# Altium footprint library Package_CSP.PcbLib: 127 footprints (part 4 of 8)
Each footprint in its own frame and in the unit in brackets; x right, y up, seen from the top. Pads: shape width x height; smd on the part's side, far side on the other; paste and mask are expansions set on the pad; w line width, h text height; cw(c..) or ccw(c..) is an arc to the next point about the centre after c.
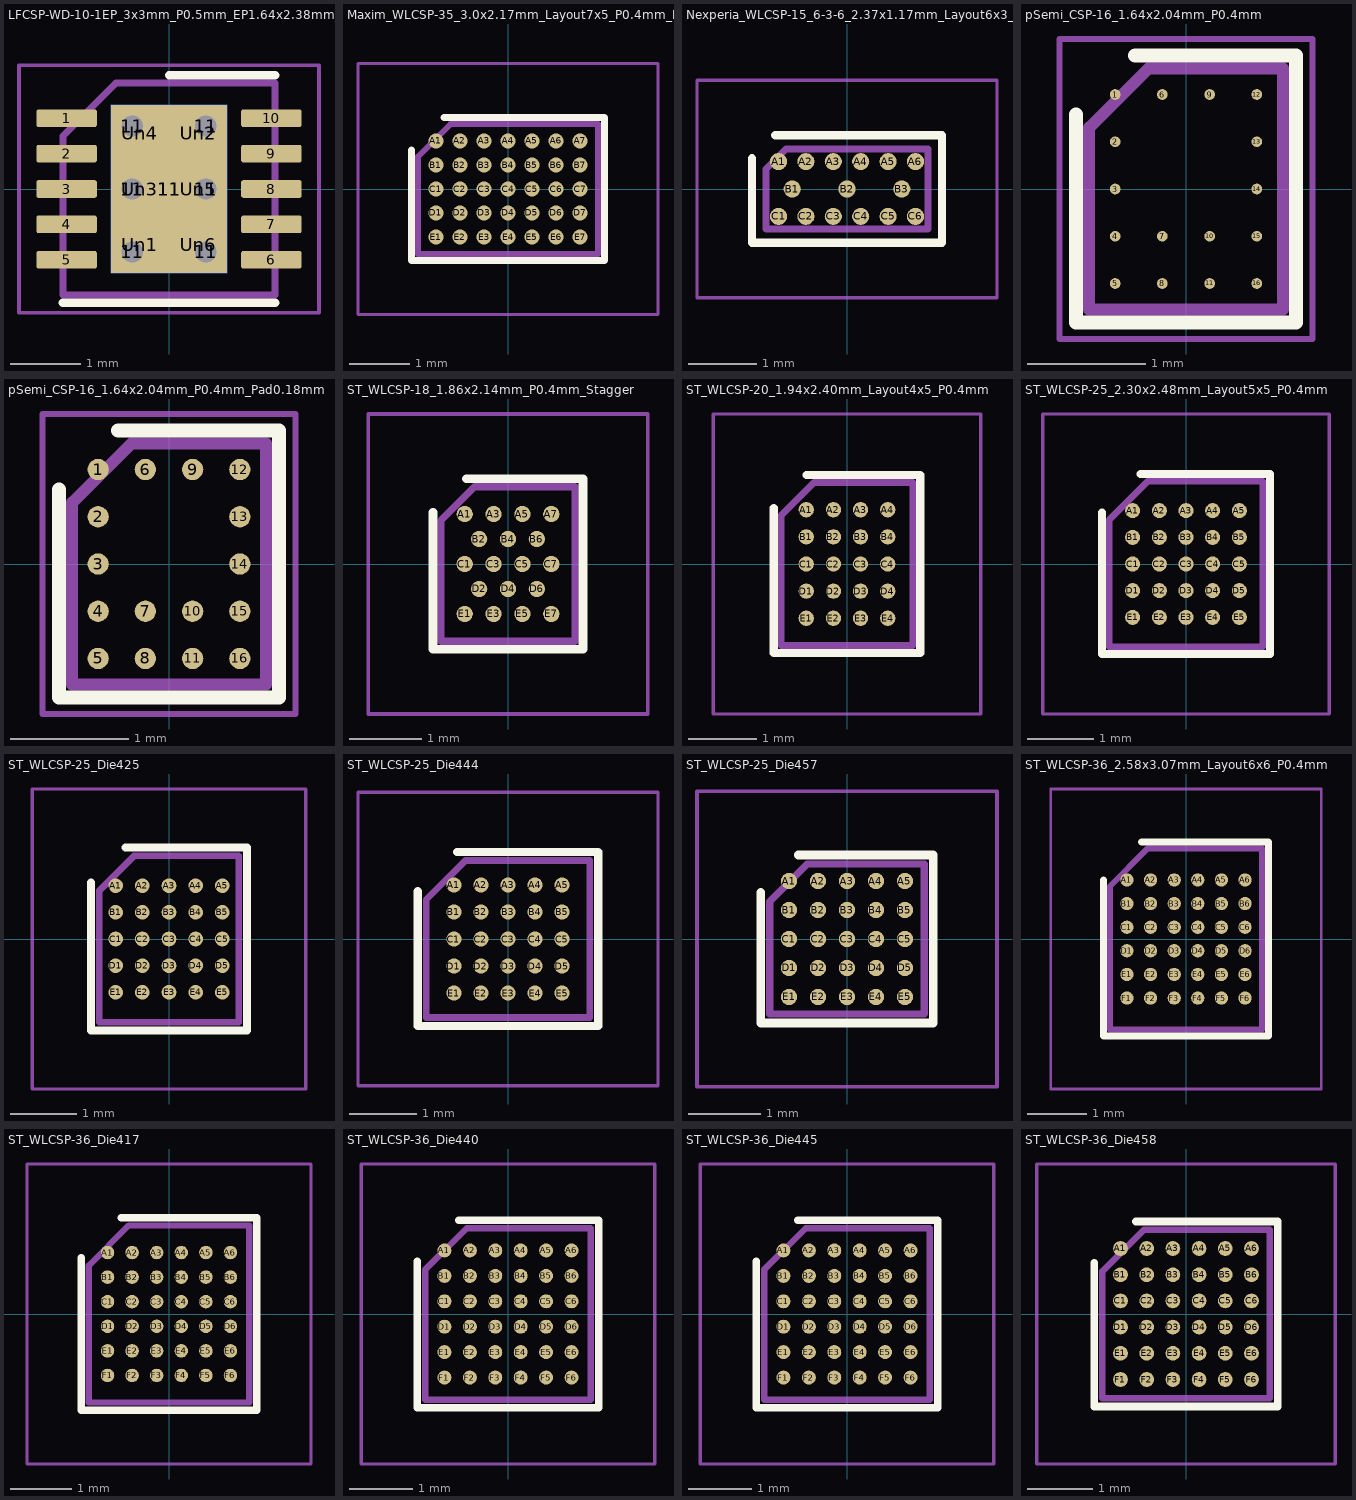
[diagram p3: the footprints below, top view; thin cyan lines are the x and y axes]

## LFCSP-WD-10-1EP_3x3mm_P0.5mm_EP1.64x2.38mm_ThermalVias [mm]
pads (24):
  rrect25% 0.855x0.25 smd: 1(-1.448,1) 2(-1.448,0.5) 3(-1.448,0) 4(-1.448,-0.5) 5(-1.448,-1) 6(1.448,-1) 7(1.448,-0.5) 8(1.448,0) 9(1.448,0.5) 10(1.448,1)
  round 0.6 hole 0.3: 11(-0.52,-0.89) 11(-0.52,0) 11(-0.52,0.89) 11(0.52,-0.89) 11(0.52,0) 11(0.52,0.89)
  rect 1.64x2.38 smd: 11(0,0)
  rect 1.64x2.38 smd far side: 11(0,0)
  rrect25% 0.71x0.69 on Top Paste: Un1(-0.41,-0.79) Un2(0.41,0.79) Un3(-0.41,0) Un4(-0.41,0.79) Un5(0.41,0) Un6(0.41,-0.79)
F.SilkS:
  lines w0.12: -1.5,-1.61 1.5,-1.61 ; 0,1.61 1.5,1.61
F.CrtYd:
  lines w0.05: -2.12,-1.75 -2.12,1.75 2.12,1.75 2.12,-1.75 -2.12,-1.75
F.Fab:
  lines w0.1: -1.5,-1.5 -1.5,0.75 -0.75,1.5 1.5,1.5 1.5,-1.5 -1.5,-1.5
  text "'.Designator'" at -3.033,-0.628 h0.75

## Maxim_WLCSP-35_3.0x2.17mm_Layout7x5_P0.4mm_Ball0.27mm_Pad0.25mm [mm]
pads (35):
  round 0.25 smd: A1(-1.2,0.8) A2(-0.8,0.8) A3(-0.4,0.8) A4(0,0.8) A5(0.4,0.8) A6(0.8,0.8) A7(1.2,0.8) B1(-1.2,0.4) B2(-0.8,0.4) B3(-0.4,0.4) B4(0,0.4) B5(0.4,0.4) B6(0.8,0.4) B7(1.2,0.4) C1(-1.2,0) C2(-0.8,0) C3(-0.4,0) C4(0,0) C5(0.4,0) C6(0.8,0) C7(1.2,0) D1(-1.2,-0.4) D2(-0.8,-0.4) D3(-0.4,-0.4) D4(0,-0.4) D5(0.4,-0.4) D6(0.8,-0.4) D7(1.2,-0.4) E1(-1.2,-0.8) E2(-0.8,-0.8) E3(-0.4,-0.8) E4(0,-0.8) E5(0.4,-0.8) E6(0.8,-0.8) E7(1.2,-0.8)
F.SilkS:
  lines w0.12: -1.609,0.652 -1.609,-1.194 1.609,-1.194 1.609,1.194 -1.067,1.194
F.CrtYd:
  lines w0.05: -2.5,-2.09 -2.5,2.09 2.5,2.09 2.5,-2.09 -2.5,-2.09
F.Fab:
  lines w0.1: -1.499,-1.084 1.499,-1.084 1.499,1.084 -0.957,1.084 -1.499,0.542 -1.499,-1.084
  text "'.Designator'" at -2.833,-0.588 h0.7

## Nexperia_WLCSP-15_6-3-6_2.37x1.17mm_Layout6x3_P0.4mm [mm]
pads (15):
  round 0.25 smd: A1(-1,0.4) A2(-0.6,0.4) A3(-0.2,0.4) A4(0.2,0.4) A5(0.6,0.4) A6(1,0.4) B1(-0.8,0) B2(0,0) B3(0.8,0) C1(-1,-0.4) C2(-0.6,-0.4) C3(-0.2,-0.4) C4(0.2,-0.4) C5(0.6,-0.4) C6(1,-0.4)
F.SilkS:
  lines w0.12: -1.385,0.447 -1.385,-0.785 1.385,-0.785 1.385,0.785 -1.048,0.785
F.CrtYd:
  lines w0.05: -2.19,-1.59 -2.19,1.59 2.19,1.59 2.19,-1.59 -2.19,-1.59
F.Fab:
  lines w0.1: -1.185,-0.585 1.185,-0.585 1.185,0.585 -0.893,0.585 -1.185,0.292 -1.185,-0.585
  text "'.Designator'" at -2.226,-0.462 h0.55

## pSemi_CSP-16_1.64x2.04mm_P0.4mm [mm]
pads (16):
  round 0.09 smd: 1(-0.6,0.8) 2(-0.6,0.4) 3(-0.6,0) 4(-0.6,-0.4) 5(-0.6,-0.8) 6(-0.2,0.8) 7(-0.2,-0.4) 8(-0.2,-0.8) 9(0.2,0.8) 10(0.2,-0.4) 11(0.2,-0.8) 12(0.6,0.8) 13(0.6,0.4) 14(0.6,0) 15(0.6,-0.4) 16(0.6,-0.8)
F.SilkS:
  lines w0.12: -0.93,0.63 -0.93,-1.13 0.93,-1.13 0.93,1.13 -0.43,1.13
F.CrtYd:
  lines w0.05: -1.07,-1.27 1.07,-1.27 1.07,1.27 -1.07,1.27 -1.07,-1.27
F.Fab:
  lines w0.1: -0.82,-1.02 -0.82,0.52 -0.32,1.02 0.82,1.02 0.82,-1.02 -0.82,-1.02
  text "'.Designator'" at 0.415,-2.018 h0.5

## pSemi_CSP-16_1.64x2.04mm_P0.4mm_Pad0.18mm [mm]
pads (16):
  round 0.18 smd: 1(-0.6,0.8) 2(-0.6,0.4) 3(-0.6,0) 4(-0.6,-0.4) 5(-0.6,-0.8) 6(-0.2,0.8) 7(-0.2,-0.4) 8(-0.2,-0.8) 9(0.2,0.8) 10(0.2,-0.4) 11(0.2,-0.8) 12(0.6,0.8) 13(0.6,0.4) 14(0.6,0) 15(0.6,-0.4) 16(0.6,-0.8)
F.SilkS:
  lines w0.12: -0.93,0.63 -0.93,-1.13 0.93,-1.13 0.93,1.13 -0.43,1.13
F.CrtYd:
  lines w0.05: -1.07,-1.27 1.07,-1.27 1.07,1.27 -1.07,1.27 -1.07,-1.27
F.Fab:
  lines w0.1: -0.82,-1.02 -0.82,0.52 -0.32,1.02 0.82,1.02 0.82,-1.02 -0.82,-1.02
  text "'.Designator'" at 0.415,-2.018 h0.5

## ST_WLCSP-18_1.86x2.14mm_P0.4mm_Stagger [mm]
pads (18):
  round 0.225 smd: A1(-0.6,0.693) A3(-0.2,0.693) A5(0.2,0.693) A7(0.6,0.693) B2(-0.4,0.346) B4(0,0.346) B6(0.4,0.346) C1(-0.6,0) C3(-0.2,0) C5(0.2,0) C7(0.6,0) D2(-0.4,-0.346) D4(0,-0.346) D6(0.4,-0.346) E1(-0.6,-0.693) E3(-0.2,-0.693) E5(0.2,-0.693) E7(0.6,-0.693)
F.SilkS:
  lines w0.12: -1.04,0.715 -1.04,-1.18 1.04,-1.18 1.04,1.18 -0.575,1.18
F.CrtYd:
  lines w0.05: -1.94,-2.08 -1.94,2.08 1.94,2.08 1.94,-2.08 -1.94,-2.08
F.Fab:
  lines w0.1: -0.93,-1.07 0.93,-1.07 0.93,1.07 -0.465,1.07 -0.93,0.605 -0.93,-1.07
  text "'.Designator'" at -0.42,2.023 h0.5

## ST_WLCSP-20_1.94x2.40mm_Layout4x5_P0.4mm [mm]
pads (20):
  round 0.225 smd: A1(-0.6,0.8) A2(-0.2,0.8) A3(0.2,0.8) A4(0.6,0.8) B1(-0.6,0.4) B2(-0.2,0.4) B3(0.2,0.4) B4(0.6,0.4) C1(-0.6,0) C2(-0.2,0) C3(0.2,0) C4(0.6,0) D1(-0.6,-0.4) D2(-0.2,-0.4) D3(0.2,-0.4) D4(0.6,-0.4) E1(-0.6,-0.8) E2(-0.2,-0.8) E3(0.2,-0.8) E4(0.6,-0.8)
F.SilkS:
  lines w0.12: -1.08,0.825 -1.08,-1.31 1.08,-1.31 1.08,1.31 -0.595,1.31
F.CrtYd:
  lines w0.05: -1.97,-2.21 -1.97,2.21 1.97,2.21 1.97,-2.21 -1.97,-2.21
F.Fab:
  lines w0.1: -0.97,-1.2 0.97,-1.2 0.97,1.2 -0.485,1.2 -0.97,0.715 -0.97,-1.2
  text "'.Designator'" at -0.471,2.266 h0.56

## ST_WLCSP-25_2.30x2.48mm_Layout5x5_P0.4mm [mm]
pads (25):
  round 0.225 smd: A1(-0.8,0.8) A2(-0.4,0.8) A3(0,0.8) A4(0.4,0.8) A5(0.8,0.8) B1(-0.8,0.4) B2(-0.4,0.4) B3(0,0.4) B4(0.4,0.4) B5(0.8,0.4) C1(-0.8,0) C2(-0.4,0) C3(0,0) C4(0.4,0) C5(0.8,0) D1(-0.8,-0.4) D2(-0.4,-0.4) D3(0,-0.4) D4(0.4,-0.4) D5(0.8,-0.4) E1(-0.8,-0.8) E2(-0.4,-0.8) E3(0,-0.8) E4(0.4,-0.8) E5(0.8,-0.8)
F.SilkS:
  lines w0.12: -1.26,0.775 -1.26,-1.35 1.26,-1.35 1.26,1.35 -0.685,1.35
F.CrtYd:
  lines w0.05: -2.15,-2.25 -2.15,2.25 2.15,2.25 2.15,-2.25 -2.15,-2.25
F.Fab:
  lines w0.1: -1.15,-1.24 1.15,-1.24 1.15,1.24 -0.575,1.24 -1.15,0.665 -1.15,-1.24
  text "'.Designator'" at -0.487,2.347 h0.58

## ST_WLCSP-25_Die425 [mm]
pads (25):
  round 0.22 smd: A1(-0.8,0.8) A2(-0.4,0.8) A3(0,0.8) A4(0.4,0.8) A5(0.8,0.8) B1(-0.8,0.4) B2(-0.4,0.4) B3(0,0.4) B4(0.4,0.4) B5(0.8,0.4) C1(-0.8,0) C2(-0.4,0) C3(0,0) C4(0.4,0) C5(0.8,0) D1(-0.8,-0.4) D2(-0.4,-0.4) D3(0,-0.4) D4(0.4,-0.4) D5(0.8,-0.4) E1(-0.8,-0.8) E2(-0.4,-0.8) E3(0,-0.8) E4(0.4,-0.8) E5(0.8,-0.8)
F.SilkS:
  lines w0.12: -1.174,0.847 -1.174,-1.372 1.174,-1.372 1.174,1.372 -0.649,1.372
F.CrtYd:
  lines w0.05: -2.05,-2.25 2.05,-2.25 2.05,2.25 -2.05,2.25 -2.05,-2.25
F.Fab:
  lines w0.1: -1.048,-1.246 -1.048,0.722 -0.524,1.246 1.048,1.246 1.048,-1.246 -1.048,-1.246
  text "'.Designator'" at -1.983,-0.412 h0.49

## ST_WLCSP-25_Die444 [mm]
pads (25):
  round 0.225 smd: A1(-0.8,0.8) A2(-0.4,0.8) A3(0,0.8) A4(0.4,0.8) A5(0.8,0.8) B1(-0.8,0.4) B2(-0.4,0.4) B3(0,0.4) B4(0.4,0.4) B5(0.8,0.4) C1(-0.8,0) C2(-0.4,0) C3(0,0) C4(0.4,0) C5(0.8,0) D1(-0.8,-0.4) D2(-0.4,-0.4) D3(0,-0.4) D4(0.4,-0.4) D5(0.8,-0.4) E1(-0.8,-0.8) E2(-0.4,-0.8) E3(0,-0.8) E4(0.4,-0.8) E5(0.8,-0.8)
F.SilkS:
  lines w0.12: -1.336,0.706 -1.336,-1.288 1.336,-1.288 1.336,1.288 -0.755,1.288
F.CrtYd:
  lines w0.05: -2.22,-2.17 -2.22,2.17 2.22,2.17 2.22,-2.17 -2.22,-2.17
F.Fab:
  lines w0.1: -1.212,-1.162 -1.212,0.581 -0.63,1.162 1.212,1.162 1.212,-1.162 -1.212,-1.162
  text "'.Designator'" at -2.266,-0.471 h0.56

## ST_WLCSP-25_Die457 [mm]
pads (25):
  round 0.225 smd: A1(-0.8,0.8) A2(-0.4,0.8) A3(0,0.8) A4(0.4,0.8) A5(0.8,0.8) B1(-0.8,0.4) B2(-0.4,0.4) B3(0,0.4) B4(0.4,0.4) B5(0.8,0.4) C1(-0.8,0) C2(-0.4,0) C3(0,0) C4(0.4,0) C5(0.8,0) D1(-0.8,-0.4) D2(-0.4,-0.4) D3(0,-0.4) D4(0.4,-0.4) D5(0.8,-0.4) E1(-0.8,-0.8) E2(-0.4,-0.8) E3(0,-0.8) E4(0.4,-0.8) E5(0.8,-0.8)
F.SilkS:
  lines w0.12: -1.191,0.643 -1.191,-1.16 1.191,-1.16 1.191,1.16 -0.674,1.16
F.CrtYd:
  lines w0.05: -2.07,-2.04 2.07,-2.04 2.07,2.04 -2.07,2.04 -2.07,-2.04
F.Fab:
  lines w0.1: -1.067,-1.035 1.067,-1.035 1.067,1.035 -0.549,1.035 -1.067,0.517 -1.067,-1.035
  text "'.Designator'" at -2.023,-0.42 h0.5

## ST_WLCSP-36_2.58x3.07mm_Layout6x6_P0.4mm [mm]
pads (36):
  round 0.225 smd: A1(-1,1) A2(-0.6,1) A3(-0.2,1) A4(0.2,1) A5(0.6,1) A6(1,1) B1(-1,0.6) B2(-0.6,0.6) B3(-0.2,0.6) B4(0.2,0.6) B5(0.6,0.6) B6(1,0.6) C1(-1,0.2) C2(-0.6,0.2) C3(-0.2,0.2) C4(0.2,0.2) C5(0.6,0.2) C6(1,0.2) D1(-1,-0.2) D2(-0.6,-0.2) D3(-0.2,-0.2) D4(0.2,-0.2) D5(0.6,-0.2) D6(1,-0.2) E1(-1,-0.6) E2(-0.6,-0.6) E3(-0.2,-0.6) E4(0.2,-0.6) E5(0.6,-0.6) E6(1,-0.6) F1(-1,-1) F2(-0.6,-1) F3(-0.2,-1) F4(0.2,-1) F5(0.6,-1) F6(1,-1)
F.SilkS:
  lines w0.12: -1.4,1 -1.4,-1.645 1.4,-1.645 1.4,1.645 -0.755,1.645
F.CrtYd:
  lines w0.05: -2.29,-2.54 -2.29,2.54 2.29,2.54 2.29,-2.54 -2.29,-2.54
F.Fab:
  lines w0.1: -1.29,-1.535 1.29,-1.535 1.29,1.535 -0.645,1.535 -1.29,0.89 -1.29,-1.535
  text "'.Designator'" at -0.597,2.873 h0.71

## ST_WLCSP-36_Die417 [mm]
pads (36):
  round 0.22 smd: A1(-1,1) A2(-0.6,1) A3(-0.2,1) A4(0.2,1) A5(0.6,1) A6(1,1) B1(-1,0.6) B2(-0.6,0.6) B3(-0.2,0.6) B4(0.2,0.6) B5(0.6,0.6) B6(1,0.6) C1(-1,0.2) C2(-0.6,0.2) C3(-0.2,0.2) C4(0.2,0.2) C5(0.6,0.2) C6(1,0.2) D1(-1,-0.2) D2(-0.6,-0.2) D3(-0.2,-0.2) D4(0.2,-0.2) D5(0.6,-0.2) D6(1,-0.2) E1(-1,-0.6) E2(-0.6,-0.6) E3(-0.2,-0.6) E4(0.2,-0.6) E5(0.6,-0.6) E6(1,-0.6) F1(-1,-1) F2(-0.6,-1) F3(-0.2,-1) F4(0.2,-1) F5(0.6,-1) F6(1,-1)
F.SilkS:
  lines w0.12: -1.43,0.913 -1.43,-1.565 1.43,-1.565 1.43,1.565 -0.777,1.565
F.CrtYd:
  lines w0.05: -2.31,-2.44 -2.31,2.44 2.31,2.44 2.31,-2.44 -2.31,-2.44
F.Fab:
  lines w0.1: -1.305,-1.44 -1.305,0.787 -0.653,1.44 1.305,1.44 1.305,-1.44 -1.305,-1.44
  text "'.Designator'" at -2.469,-0.513 h0.61

## ST_WLCSP-36_Die440 [mm]
pads (36):
  round 0.22 smd: A1(-1,1) A2(-0.6,1) A3(-0.2,1) A4(0.2,1) A5(0.6,1) A6(1,1) B1(-1,0.6) B2(-0.6,0.6) B3(-0.2,0.6) B4(0.2,0.6) B5(0.6,0.6) B6(1,0.6) C1(-1,0.2) C2(-0.6,0.2) C3(-0.2,0.2) C4(0.2,0.2) C5(0.6,0.2) C6(1,0.2) D1(-1,-0.2) D2(-0.6,-0.2) D3(-0.2,-0.2) D4(0.2,-0.2) D5(0.6,-0.2) D6(1,-0.2) E1(-1,-0.6) E2(-0.6,-0.6) E3(-0.2,-0.6) E4(0.2,-0.6) E5(0.6,-0.6) E6(1,-0.6) F1(-1,-1) F2(-0.6,-1) F3(-0.2,-1) F4(0.2,-1) F5(0.6,-1) F6(1,-1)
F.SilkS:
  lines w0.12: -1.428,0.825 -1.428,-1.476 1.428,-1.476 1.428,1.476 -0.776,1.476
F.CrtYd:
  lines w0.05: -2.31,-2.36 -2.31,2.36 2.31,2.36 2.31,-2.36 -2.31,-2.36
F.Fab:
  lines w0.1: -1.302,-1.352 1.302,-1.352 1.302,1.352 -0.651,1.352 -1.302,0.7 -1.302,-1.352
  text "'.Designator'" at -2.469,-0.513 h0.61

## ST_WLCSP-36_Die445 [mm]
pads (36):
  round 0.22 smd: A1(-1,1) A2(-0.6,1) A3(-0.2,1) A4(0.2,1) A5(0.6,1) A6(1,1) B1(-1,0.6) B2(-0.6,0.6) B3(-0.2,0.6) B4(0.2,0.6) B5(0.6,0.6) B6(1,0.6) C1(-1,0.2) C2(-0.6,0.2) C3(-0.2,0.2) C4(0.2,0.2) C5(0.6,0.2) C6(1,0.2) D1(-1,-0.2) D2(-0.6,-0.2) D3(-0.2,-0.2) D4(0.2,-0.2) D5(0.6,-0.2) D6(1,-0.2) E1(-1,-0.6) E2(-0.6,-0.6) E3(-0.2,-0.6) E4(0.2,-0.6) E5(0.6,-0.6) E6(1,-0.6) F1(-1,-1) F2(-0.6,-1) F3(-0.2,-1) F4(0.2,-1) F5(0.6,-1) F6(1,-1)
F.SilkS:
  lines w0.12: -1.428,0.825 -1.428,-1.476 1.428,-1.476 1.428,1.476 -0.776,1.476
F.CrtYd:
  lines w0.05: -2.31,-2.36 -2.31,2.36 2.31,2.36 2.31,-2.36 -2.31,-2.36
F.Fab:
  lines w0.1: -1.302,-1.352 -1.302,0.7 -0.651,1.352 1.302,1.352 1.302,-1.352 -1.302,-1.352
  text "'.Designator'" at -2.469,-0.513 h0.61

## ST_WLCSP-36_Die458 [mm]
pads (36):
  round 0.225 smd: A1(-1,1) A2(-0.6,1) A3(-0.2,1) A4(0.2,1) A5(0.6,1) A6(1,1) B1(-1,0.6) B2(-0.6,0.6) B3(-0.2,0.6) B4(0.2,0.6) B5(0.6,0.6) B6(1,0.6) C1(-1,0.2) C2(-0.6,0.2) C3(-0.2,0.2) C4(0.2,0.2) C5(0.6,0.2) C6(1,0.2) D1(-1,-0.2) D2(-0.6,-0.2) D3(-0.2,-0.2) D4(0.2,-0.2) D5(0.6,-0.2) D6(1,-0.2) E1(-1,-0.6) E2(-0.6,-0.6) E3(-0.2,-0.6) E4(0.2,-0.6) E5(0.6,-0.6) E6(1,-0.6) F1(-1,-1) F2(-0.6,-1) F3(-0.2,-1) F4(0.2,-1) F5(0.6,-1) F6(1,-1)
F.SilkS:
  lines w0.12: -1.402,0.776 -1.402,-1.415 1.402,-1.415 1.402,1.415 -0.763,1.415
F.CrtYd:
  lines w0.05: -2.28,-2.29 -2.28,2.29 2.28,2.29 2.28,-2.29 -2.28,-2.29
F.Fab:
  lines w0.1: -1.276,-1.289 1.276,-1.289 1.276,1.289 -0.638,1.289 -1.276,0.651 -1.276,-1.289
  text "'.Designator'" at -2.388,-0.496 h0.59